# Altium schematic symbol library MainLibrary.SchLib: 169 symbols (part 1 of 2)
Pins are listed as number, name and electrical type; pins without a type are passive.

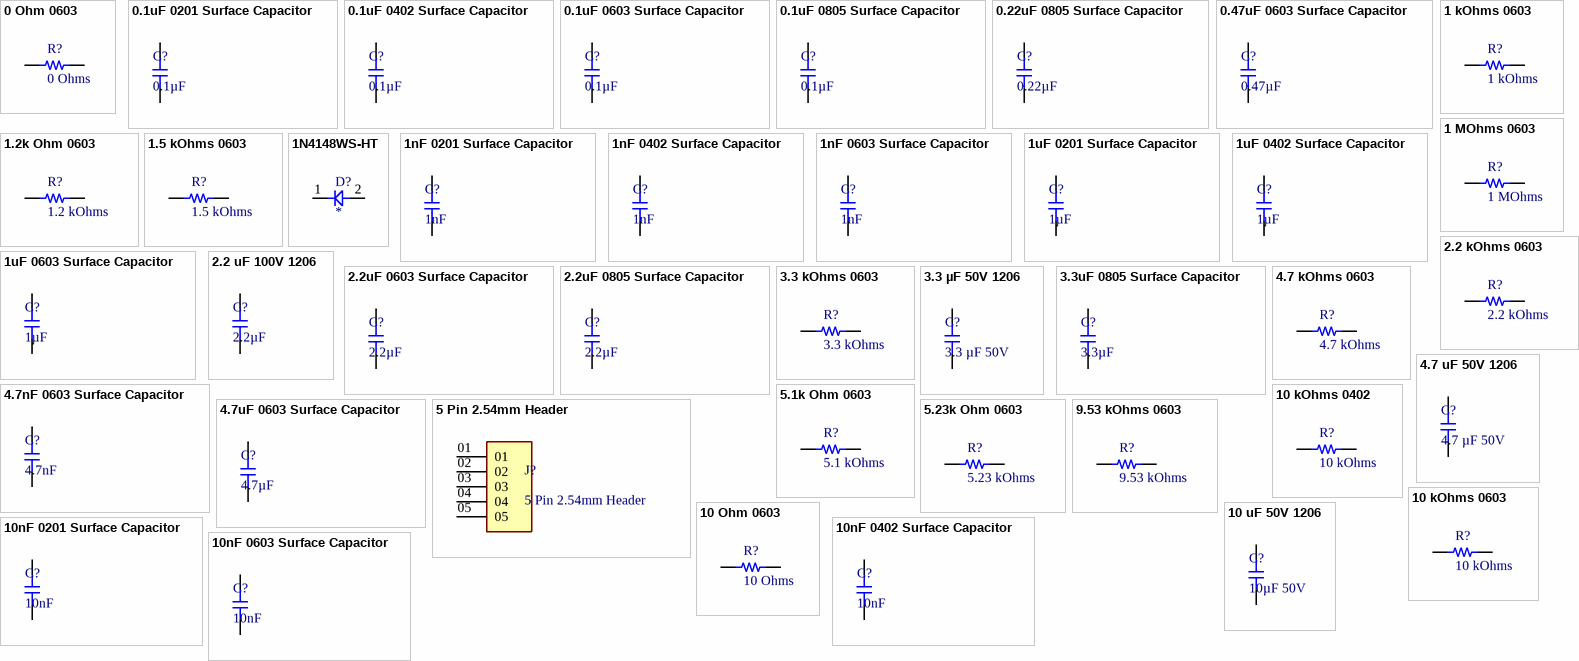
[diagram p0: symbols 0 Ohm 0603 to 10nF 0603 Surface Capacitor]

## 0 Ohm 0603
designator R?, comment 0 Ohms
0 Ohm 0603
footprint 0603_RES
pins: 1, 2

## 0.1uF 0201 Surface Capacitor
designator C?, comment 0.1µF
0.1uF 0201 Surface Capacitor
footprint 0201_CAP
pins: 1, 2

## 0.1uF 0402 Surface Capacitor
designator C?, comment 0.1µF
0.1uF 0402 Surface Capacitor
footprint 0402_CAP
pins: 1, 2

## 0.1uF 0603 Surface Capacitor
designator C?, comment 0.1µF
0.1uF 0603 Surface Capacitor
footprint 0603_Footprint
pins: 1, 2

## 0.1uF 0805 Surface Capacitor
designator C?, comment 0.1µF
0.1uF 0805 Surface Capacitor
footprint 0805
pins: 1, 2

## 0.22uF 0805 Surface Capacitor
designator C?, comment 0.22µF
0.22uF 0805 Surface Capacitor
footprint 0805
pins: 1, 2

## 0.47uF 0603 Surface Capacitor
designator C?, comment 0.47µF
0.47uF 0603 Surface Capacitor
footprint 0603_Footprint
pins: 1, 2

## 1 kOhms 0603
designator R?, comment 1 kOhms
1 kOhms 0603
footprint 0603_RES
pins: 1, 2

## 1 MOhms 0603
designator R?, comment 1 MOhms
1 MOhms 0603
footprint 0603_RES
pins: 1, 2

## 1.2k Ohm 0603
designator R?, comment 1.2 kOhms
1.2k Ohm 0603
footprint 0603_RES
pins: 1, 2

## 1.5 kOhms 0603
designator R?, comment 1.5 kOhms
1.5 kOhms 0603
footprint 0603_RES
pins: 1, 2

## 1N4148WS-HT
designator D?
75V 150mA Fast Switching Diode SMD; Manufacturer_Name: Vishay; Manufacturer_Part_Number: 1N4148WS-HT; Datasheet Link: https://www.vishay.com/docs/85751/1n4148ws.pdf; Height: 1.15mm; Mouser Part Number: 1N4148WS-HT; Mouser Price/Stock: https://www.mouser.co.uk/ProductDetail/Vishay-Semiconductors/1N4148WS-E3-18?qs=bTzheeSci6SMGZleBxLU%2Fg%3D%3D; Arrow Part Number: 1N4148WS-E3-18; Arrow Price/Stock: https://www.arrow.com/en/products/1n4148ws-e3-18/vishay?region=nac
footprint SOD2713X115N
pins: 1 K, 2 A

## 1nF 0201 Surface Capacitor
designator C?, comment 1nF
1nF 0201 Surface Capacitor
footprint 0201_CAP
pins: 1, 2

## 1nF 0402 Surface Capacitor
designator C?, comment 1nF
1nF 0402 Surface Capacitor
footprint 0402_CAP
pins: 1, 2

## 1nF 0603 Surface Capacitor
designator C?, comment 1nF
1nF 0603 Surface Capacitor
footprint 0603_Footprint
pins: 1, 2

## 1uF 0201 Surface Capacitor
designator C?, comment 1µF
1uF 0201 Surface Capacitor
footprint 0201_CAP
pins: 1, 2

## 1uF 0402 Surface Capacitor
designator C?, comment 1µF
1uF 0402 Surface Capacitor
footprint 0402_CAP
pins: 1, 2

## 1uF 0603 Surface Capacitor
designator C?, comment 1µF
1uF 0603 Surface Capacitor
footprint 0603_Footprint
pins: 1, 2

## 2.2 kOhms 0603
designator R?, comment 2.2 kOhms
2.2 kOhms 0603
footprint 0603_RES
pins: 1, 2

## 2.2 uF 100V 1206
designator C?, comment 2.2µF
2.2 uF 100V 1206
footprint 1206_10uF
pins: 1, 2

## 2.2uF 0603 Surface Capacitor
designator C?, comment 2.2µF
2.2uF 0603 Surface Capacitor
footprint 0603_Footprint
pins: 1, 2

## 2.2uF 0805 Surface Capacitor
designator C?, comment 2.2µF
2.2uF 0805 Surface Capacitor
footprint 0805
pins: 1, 2

## 3.3 kOhms 0603
designator R?, comment 3.3 kOhms
3.3 kOhms 0603
footprint 0603_RES
pins: 1, 2

## 3.3 µF 50V 1206
designator C?, comment 3.3 µF 50V
3.3 µF 50V 1206
footprint 1206_10uF
pins: 1, 2

## 3.3uF 0805 Surface Capacitor
designator C?, comment 3.3µF
3.3uF 0805 Surface Capacitor
footprint 0805
pins: 1, 2

## 4.7 kOhms 0603
designator R?, comment 4.7 kOhms
4.7 kOhms 0603
footprint 0603_RES
pins: 1, 2

## 4.7 uF 50V 1206
designator C?, comment 4.7 µF 50V
10 uF 50V 1206
footprint 1206_10uF
pins: 1, 2

## 4.7nF 0603 Surface Capacitor
designator C?, comment 4.7nF
4.7nF 0603 Surface Capacitor
footprint 0603_Footprint
pins: 1, 2

## 4.7uF 0603 Surface Capacitor
designator C?, comment 4.7µF
4.7uF 0603 Surface Capacitor
footprint 0603_Footprint
pins: 1, 2

## 5 Pin 2.54mm Header
designator J?
Generic 2.54MM 5 Pin Header; MP: MTSW-105-09-G-S-480; Availability: Unavailable; Package: None; Value: *; Price: None
footprint 5PIN_254MM
pins: 01, 02, 03, 04, 05

## 5.1k Ohm 0603
designator R?, comment 5.1 kOhms
5.1k Ohm 0603
footprint 0603_RES
pins: 1, 2

## 5.23k Ohm 0603
designator R?, comment 5.23 kOhms
5.23k Ohm 0603
footprint 0603_RES
pins: 1, 2

## 9.53 kOhms 0603
designator R?, comment 9.53 kOhms
9.53 kOhms 0603
footprint 0603_RES
pins: 1, 2

## 10 kOhms 0402
designator R?, comment 10 kOhms
10 kOhm 0402
footprint 0402_RES
pins: 1, 2

## 10 kOhms 0603
designator R?, comment 10 kOhms
10 kOhms 0603
footprint 0603_RES
pins: 1, 2

## 10 Ohm 0603
designator R?, comment 10 Ohms
10 Ohms 0603
footprint 0603_RES
pins: 1, 2

## 10 uF 50V 1206
designator C?, comment 10µF 50V
10 uF 50V 1206
footprint 1206_10uF
pins: 1, 2

## 10nF 0201 Surface Capacitor
designator C?, comment 10nF
10nF 0201 Surface Capacitor
footprint 0201_CAP
pins: 1, 2

## 10nF 0402 Surface Capacitor
designator C?, comment 10nF
10nF 0402 Surface Capacitor
footprint 0402_CAP
pins: 1, 2

## 10nF 0603 Surface Capacitor
designator C?, comment 10nF
10nF 0603 Surface Capacitor
footprint 0603_Footprint
pins: 1, 2

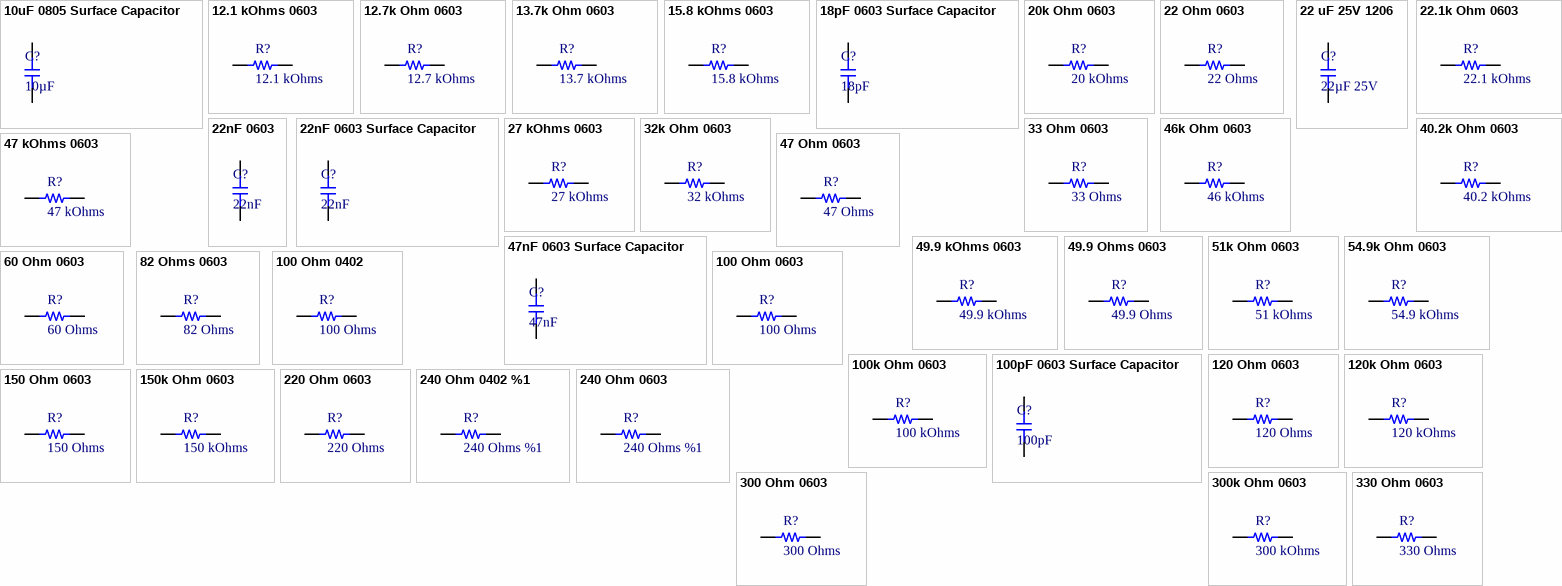
[diagram p1: symbols 10uF 0805 Surface Capacitor to 330 Ohm 0603]

## 10uF 0805 Surface Capacitor
designator C?, comment 10µF
10uF 0805 Surface Capacitor
footprint 0805
pins: 1, 2

## 12.1 kOhms 0603
designator R?, comment 12.1 kOhms
12.1 kOhms 0603
footprint 0603_RES
pins: 1, 2

## 12.7k Ohm 0603
designator R?, comment 12.7 kOhms
12.7k Ohm 0603
footprint 0603_RES
pins: 1, 2

## 13.7k Ohm 0603
designator R?, comment 13.7 kOhms
13.7 kOhms 0603
footprint 0603_RES
pins: 1, 2

## 15.8 kOhms 0603
designator R?, comment 15.8 kOhms
15.8 kOhms 0603
footprint 0603_RES
pins: 1, 2

## 18pF 0603 Surface Capacitor
designator C?, comment 18pF
18pF 0603 Surface Capacitor
footprint 0603_Footprint
pins: 1, 2

## 20k Ohm 0603
designator R?, comment 20 kOhms
20k Ohm 0603
footprint 0603_RES
pins: 1, 2

## 22 Ohm 0603
designator R?, comment 22 Ohms
22 Ohms 0603
footprint 0603_RES
pins: 1, 2

## 22 uF 25V 1206
designator C?, comment 22µF 25V
22 uF 25V 1206
footprint 1206_10uF
pins: 1, 2

## 22.1k Ohm 0603
designator R?, comment 22.1 kOhms
22.1 kOhms 0603
footprint 0603_RES
pins: 1, 2

## 22nF 0603
designator C?, comment 22nF
22nF 0603 Surface Capacitor
footprint 0603_Footprint
pins: 1, 2

## 22nF 0603 Surface Capacitor
designator C?, comment 22nF
22nF 0603 Surface Capacitor
footprint 0603_Footprint
pins: 1, 2

## 27 kOhms 0603
designator R?, comment 27 kOhms
27 kOhms 0603
footprint 0603_RES
pins: 1, 2

## 32k Ohm 0603
designator R?, comment 32 kOhms
32k Ohm 0603
footprint 0603_RES
pins: 1, 2

## 33 Ohm 0603
designator R?, comment 33 Ohms
33 Ohm 0603
footprint 0603_RES
pins: 1, 2

## 40.2k Ohm 0603
designator R?, comment 40.2 kOhms
40.2k Ohm 0603
footprint 0603_RES
pins: 1, 2

## 46k Ohm 0603
designator R?, comment 46 kOhms
46k Ohm 0603
footprint 0603_RES
pins: 1, 2

## 47 kOhms 0603
designator R?, comment 47 kOhms
47 kOhm 0603
footprint 0603_RES
pins: 1, 2

## 47 Ohm 0603
designator R?, comment 47 Ohms
47 Ohm 0603
footprint 0603_RES
pins: 1, 2

## 47nF 0603 Surface Capacitor
designator C?, comment 47nF
47nF 0603 Surface Capacitor
footprint 0603_Footprint
pins: 1, 2

## 49.9 kOhms 0603
designator R?, comment 49.9 kOhms
49.9 kOhms 0603
footprint 0603_RES
pins: 1, 2

## 49.9 Ohms 0603
designator R?, comment 49.9 Ohms
49.9 Ohms 0603
footprint 0603_RES
pins: 1, 2

## 51k Ohm 0603
designator R?, comment 51 kOhms
51k Ohm 0603
footprint 0603_RES
pins: 1, 2

## 54.9k Ohm 0603
designator R?, comment 54.9 kOhms
54.9k Ohm 0603
footprint 0603_RES
pins: 1, 2

## 60 Ohm 0603
designator R?, comment 60 Ohms
60 Ohm 0603
footprint 0603_RES
pins: 1, 2

## 82 Ohms 0603
designator R?, comment 82 Ohms
82 Ohms 0603
footprint 0603_RES
pins: 1, 2

## 100 Ohm 0402
designator R?, comment 100 Ohms
100 Ohm 0402
footprint 0402_RES
pins: 1, 2

## 100 Ohm 0603
designator R?, comment 100 Ohms
100 Ohm 0603
footprint 0603_RES
pins: 1, 2

## 100k Ohm 0603
designator R?, comment 100 kOhms
100k Ohm 0603
footprint 0603_RES
pins: 1, 2

## 100pF 0603 Surface Capacitor
designator C?, comment 100pF
100pF 0603 Surface Capacitor
footprint 0603_Footprint
pins: 1, 2

## 120 Ohm 0603
designator R?, comment 120 Ohms
120 Ohm 0603
footprint 0603_RES
pins: 1, 2

## 120k Ohm 0603
designator R?, comment 120 kOhms
120k Ohm 0603
footprint 0603_RES
pins: 1, 2

## 150 Ohm 0603
designator R?, comment 150 Ohms
150 Ohm 0603
footprint 0603_RES
pins: 1, 2

## 150k Ohm 0603
designator R?, comment 150 kOhms
150k Ohm 0603
footprint 0603_RES
pins: 1, 2

## 220 Ohm 0603
designator R?, comment 220 Ohms
220 Ohms 0603
footprint 0603_RES
pins: 1, 2

## 240 Ohm 0402 %1
designator R?, comment 240 Ohms %1
240 Ohm 0402 %1
footprint 0402_RES
pins: 1, 2

## 240 Ohm 0603
designator R?, comment 240 Ohms %1
footprint 0603_RES
pins: 1, 2

## 300 Ohm 0603
designator R?, comment 300 Ohms
300 Ohm 0603
footprint 0603_RES
pins: 1, 2

## 300k Ohm 0603
designator R?, comment 300 kOhms
300k Ohm 0603
footprint 0603_RES
pins: 1, 2

## 330 Ohm 0603
designator R?, comment 330 Ohms
330 Ohm 0603
footprint 0603_RES
pins: 1, 2

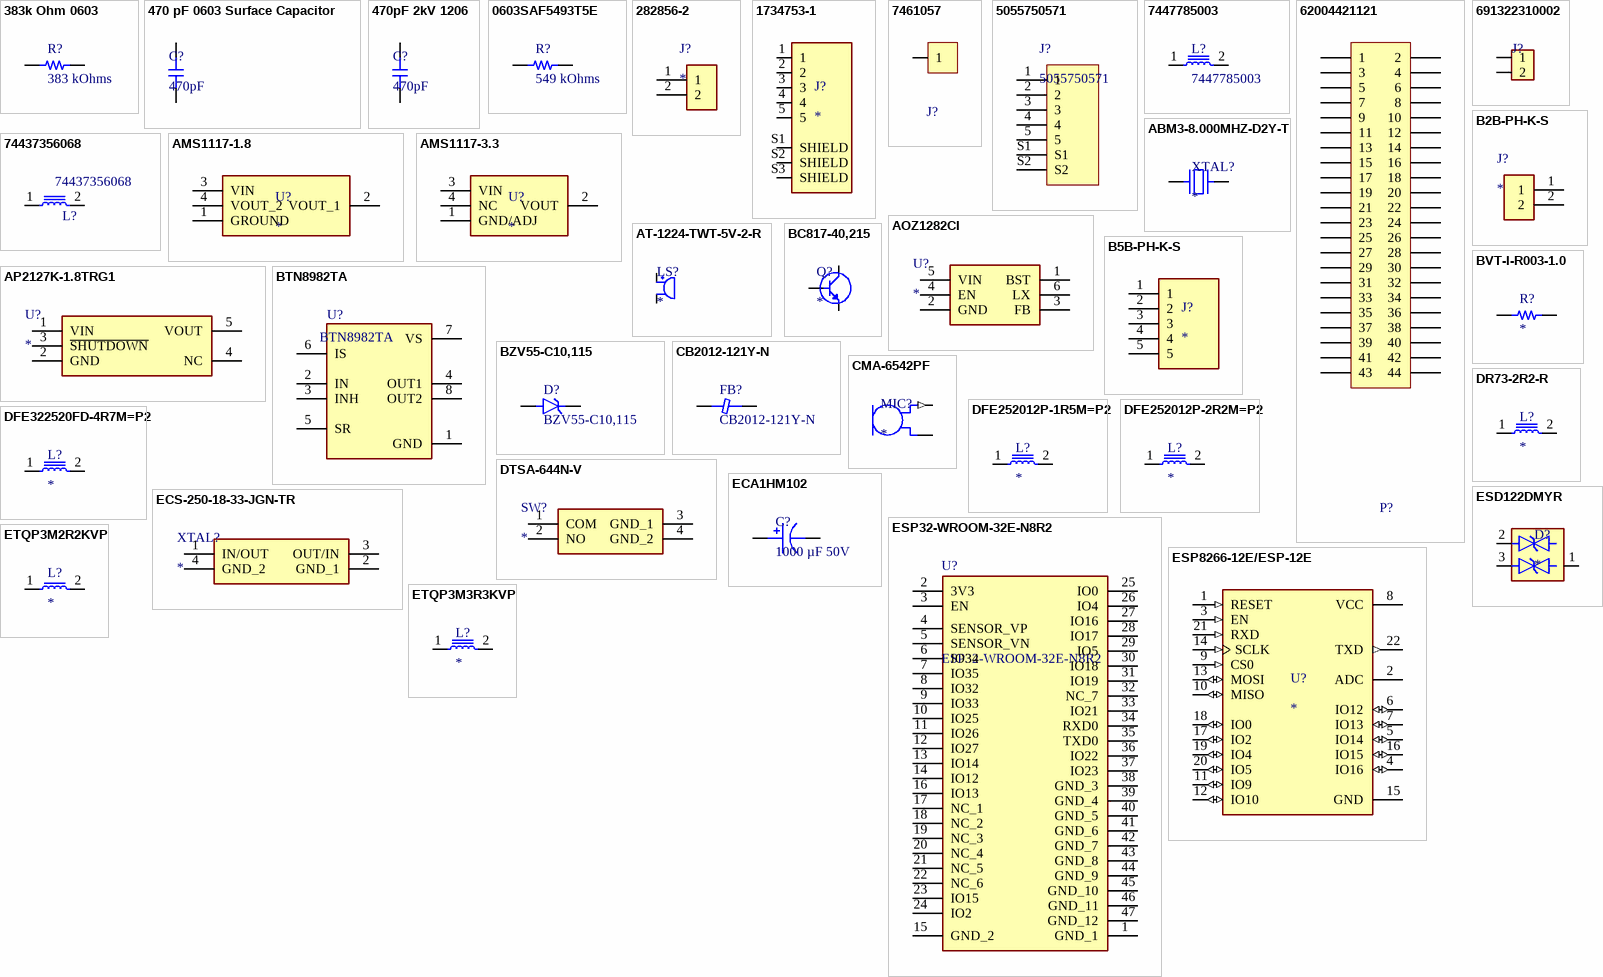
[diagram p2: symbols 383k Ohm 0603 to ETQP3M3R3KVP]

## 383k Ohm 0603
designator R?, comment 383 kOhms
383k Ohm 0603
footprint 0603_RES
pins: 1, 2

## 470 pF 0603 Surface Capacitor
designator C?, comment 470pF
470 pF 0603 Surface Capacitor
footprint 0603_Footprint
pins: 1, 2

## 470pF 2kV 1206
designator C?, comment 470pF
470pF 2kV 1206
footprint 1206_10uF
pins: 1, 2

## 0603SAF5493T5E
designator R?, comment 549 kOhms
0805 549 kOhms 5% 1/8W-S 100PPM
footprint 0603_RES
pins: 1, 2

## 282856-2
designator J?
TERMI-BLOK PCB MOUNT 2P; MP: 282856-2; MF: TE Connectivity; Purchase-URL: https://pricing.snapeda.com/search/part/282856-2/?ref=eda; Package: None; EU_RoHS_Compliance: Compliant with Exemptions; Price: None; Availability: In Stock; Value: *; Check_prices: https://www.snapeda.com/parts/282856-2/TE+Connectivity+AMP+Connectors/view-part/?ref=eda; SnapEDA_Link: https://www.snapeda.com/parts/282856-2/TE+Connectivity+AMP+Connectors/view-part/?ref=snap
footprint TE_282856-2
pins: 1, 2

## 1734753-1
designator J?
Conn Mini USB 2.0 Type B RCP 5 POS 0.8mm Solder ST Thru-Hole 5 Terminal 1 Port Box/Tray; MP: 1734753-1; Number_of_Positions: 5; Product_Type: Connector; MF: TE Connectivity; Centerline_Pitch: .8 mm[.031 in]; Check_prices: https://www.snapeda.com/parts/1734753-1/TE+Connectivity+AMP+Connectors/view-part/?ref=eda; Value: *; Availability: In Stock; Price: None; Package: None; SnapEDA_Link: https://www.snapeda.com/parts/1734753-1/TE+Connectivity+AMP+Connectors/view-part/?ref=snap; Purchase-URL: https://pricing.snapeda.com/search/part/1734753-1/?ref=eda; EU_RoHS_Compliance: Compliant
footprint CONN_1734753-1
pins: 1, 2, 3, 4, 5, S1 SHIELD, S2 SHIELD, S3 SHIELD

## 7461057
designator J?, comment M3 x 5mm  (value not drawn)
WP-BUTR REDCUBE PRESS-FIT with internal thread, two-rows, L7W7H6mm, M3 x 5mm, 100A; Manufacturer Part Number: 7461057; Manufacturer: Wurth Elektronik; Surface: Tin; ComponentLink1Description: Website Link; ComponentLink1URL: https://www.we-online.com/redexpert/article/7461057?ad; ComponentLink2Description: Datasheet Link; ComponentLink2URL: https://www.we-online.com/redexpert/spec/7461057?ad; Category: REDCUBE PRESS-FIT; Match Code: WP-BUTR; Mount: Press Fit; Operating Temperature Max: 150°C; Operating Temperature Min: -55°C; Packaging: Bulk; Length: 7mm; Width: 7mm; Height: 6mm; Material: Brass; Number of Pins: 6; Rated Current: 100A; Thread Length: 5mm; Thread Size: M3
footprint 7461057_HAL
footprint 7461057_HAL (WP-BUTR Bushes with two Rows Pin-Plate, M3, blind thr 6mm)
pins: 1

## 5055750571
designator J?
2.00mm Pitch, Micro-Lock Plus PCB Header, Single Row, Vertical, Surface Mount, Matte Tin Plating, Positive Lock, 5 Circuits, Black; Availability: Unavailable; MP: 5055750571; Value: *; Price: None; Package: None
footprint MOLEX_5055750571
pins: 1, 2, 3, 4, 5, S1, S2

## 7447785003
designator L?
7447785003 2.8A Inductor; Manufacturer_Name: Vishay; Manufacturer_Part_Number: IHLP2525CZER220M8A; Datasheet Link: https://componentsearchengine.com/Datasheets/2/IHLP2525CZER220M8A.pdf; Height: 3mm; Mouser Part Number: 70-IHLP2525CZR220M8A; Mouser Price/Stock: https://www.mouser.co.uk/ProductDetail/Vishay-Dale/IHLP2525CZER220M8A?qs=ei%2FvZTf36ZyKyW60gc1ORQ%3D%3D; Arrow Part Number: IHLP2525CZER220M8A; Arrow Price/Stock: https://www.arrow.com/en/products/ihlp2525czer220m8a/vishay
footprint 7447785003
pins: 1, 2

## 62004421121
designator P?  (value not drawn)
WR-PHD Pin Header, THT, Vertical, pitch 2mm, 2 Row, 44P; Manufacturer: Wurth Elektronik; Contact Resistance: 20mOhm; Rated Current: 2A; Working Voltage: 200V; Withstanding Voltage: 500V; Manufacturer Part Number: 62004421121; Category: Board-to-Board Connectors; Match Code: WR-PHD; ComponentLink1Description: Website Link; ComponentLink1URL: https://www.we-online.com/redexpert/article/62004421121?ad; ComponentLink2Description: Datasheet Link; ComponentLink2URL: https://www.we-online.com/redexpert/spec/62004421121?ad; Mount: Through Hole; Operating Temperature Max: 105°C; Operating Temperature Min: -40°C; Packaging: Bag; Gender: Pin Header; Number of Pins: 44; Number of Rows: 2; Orientation: Vertical; Pitch: 2mm
footprint 62004421121 (2.00 mm THT Dual Pin Header, 44p)
pins: 1, 2, 3, 4, 5, 6, 7, 8, 9, 10, 11, 12, 13, 14, 15, 16, 17, 18, 19, 20, 21, 22, 23, 24, 25, 26, 27, 28, 29, 30, 31, 32, 33, 34, 35, 36, 37, 38, 39, 40, 41, 42, 43, 44

## 74437356068
designator L?
WE-LHMI SMT Power Inductor, size 8030, 6.8uH, 5.8A, 49.3mOhm; Manufacturer: Wurth Elektronik; Case/Size Code: 8030; DC Resistance: 35.5mOhm; Saturation Current @ 10%: 6.9A; Saturation Current @ 30%: 14.2A; Self Resonant Frequency: 14MHz; Manufacturer Part Number: 74437356068; Category: Power Inductors; Match Code: WE-LHMI; ComponentLink1Description: Website Link; ComponentLink1URL: https://www.we-online.com/redexpert/article/74437356068?ad; ComponentLink2Description: Datasheet Link; ComponentLink2URL: https://www.we-online.com/redexpert/spec/74437356068?ad; Mount: Surface Mount; Operating Temperature Max: 125°C; Operating Temperature Min: -40°C; Packaging: Tape and Reel; Length: 9.2mm; Width: 8.5mm; Height: 3mm; DC Resistance Max: 49.3mOhm; Inductance: 6.8uH; Performance Rated Current: 5.8A
footprint WE-LHMI_8030
pins: 1, 2

## 691322310002
designator J?  (value not drawn)
WURTH 3.81MM Terminal Block 691322310002
footprint WURH_3_81_691322310002
pins: 1, 2

## ABM3-8.000MHZ-D2Y-T
designator XTAL?
8MHz 2 Pin SMD Crystal; Manufacturer_Name: ABRACON; Manufacturer_Part_Number: ABM3-8.000MHZ-D2Y-T; Datasheet Link: https://abracon.com/Resonators/abm3.pdf; Height: 1.3mm; Mouser Part Number: 815-ABM3-8-D2Y-T; Mouser Price/Stock: https://www.mouser.co.uk/ProductDetail/ABRACON/ABM3-8.000MHZ-D2Y-T?qs=ihRgKfnEsN4giUXjc3yS1g%3D%3D; Arrow Part Number: ABM3-8.000MHZ-D2Y-T; Arrow Price/Stock: https://www.arrow.com/en/products/abm3-8.000mhz-d2y-t/abracon?region=europe
footprint ABM3
pins: 1, 2

## AMS1117-1.8
designator U?
1.8V LDO; Manufacturer_Name: Advanced Monolithic Systems; Manufacturer_Part_Number: AMS1117-1.8; Datasheet Link: https://datasheet.datasheetarchive.com/originals/distributors/Datasheets-1/DSA-6085.pdf; Height: 1.8mm
footprint SOT229P700X180-4N
pins: 1 GROUND, 2 VOUT_1, 3 VIN, 4 VOUT_2

## AMS1117-3.3
designator U?
3.3V LDO; Manufacturer_Name: Advanced; Manufacturer_Part_Number: AMS1117-3.3; Datasheet Link: https://datasheet.datasheetarchive.com/originals/distributors/Datasheets-28/DSA-550594.pdf; Height: 1.8mm
footprint SOT229P700X180-4N
pins: 1 GND/ADJ, 2 VOUT, 3 VIN, 4 NC

## AOZ1282CI
designator U?
+36V 1.2A Buck Converter; Manufacturer_Name: Alpha & Omega Semiconductors; Manufacturer_Part_Number: AOZ1282CI; Datasheet Link: http://www.aosmd.com/res/data_sheets/AOZ1282CI.pdf; Height: 1.25mm; Arrow Part Number: AOZ1282CI; Arrow Price/Stock: https://www.arrow.com/en/products/aoz1282ci/alpha-and-omega-semiconductor?region=nac
footprint SOT95P280X125-6N
pins: 1 BST, 2 GND, 3 FB, 4 EN, 5 VIN, 6 LX

## AP2127K-1.8TRG1
designator U?
1.8V Fixed LDO; Manufacturer_Name: Diodes Incorporated; Manufacturer_Part_Number: AP2127K-1.8TRG1; Datasheet Link: https://www.diodes.com//assets/Datasheets/AP2127.pdf; Height: 1.45mm; Mouser Part Number: 621-AP2127K-1.8TRG1; Mouser Price/Stock: https://www.mouser.co.uk/ProductDetail/Diodes-Incorporated/AP2127K-1.8TRG1?qs=x6A8l6qLYDDmU4WXw4%252BBlA%3D%3D; Arrow Part Number: AP2127K-1.8TRG1; Arrow Price/Stock: https://www.arrow.com/en/products/ap2127k-1.8trg1/diodes-incorporated?region=nac
footprint SOT95P282X145-5N
pins: 1 VIN, 2 GND, 3 ~{SHUTDOWN}, 4 NC, 5 VOUT

## AT-1224-TWT-5V-2-R
designator LS?
AUDIO TRANSDUCER 12 VP-P 85 DB 2400 HZ; MP: AT-1224-TWT-5V-2-R; Package: None; Price: None; Value: *; Availability: Unavailable
footprint XDCR_AT-1224-TWT-5V-2-R
pins: N, P

## B2B-PH-K-S
designator J?
Connector Header Through Hole 2 position 0.079 (2.00mm); MF: JST Sales America Inc.; MP: B2B-PH-K-S; SnapEDA_Link: https://www.snapeda.com/parts/B2B-PH-K-S/JST/view-part/?ref=snap; Package: None; Value: *; Check_prices: https://www.snapeda.com/parts/B2B-PH-K-S/JST/view-part/?ref=eda
footprint JST_B2B-PH-K-S
pins: 1, 2

## B5B-PH-K-S
designator J?
THT 2MM Connector; MF: {'manufacturer': u'JST Sales America Inc.'}; MP: B5B-PH-K-S; Package: None; Price: None; Value: *; Availability: Unavailable
footprint JST_B5B-PH-K-S
pins: 1, 2, 3, 4, 5

## BC817-40,215
designator Q?
0.5A 45V BJT NPN Transistor SOT23 SMD; Manufacturer_Name: Nexperia; Manufacturer_Part_Number: BC817-40,215; Datasheet Link: https://assets.nexperia.com/documents/data-sheet/BC817_SER.pdf; Height: 1.1mm; Mouser Part Number: 771-BC817-40-T/R; Mouser Price/Stock: https://www.mouser.co.uk/ProductDetail/Nexperia/BC817-40215?qs=me8TqzrmIYU%252B245p8hOLaQ%3D%3D; Arrow Part Number: BC817-40,215; Arrow Price/Stock: https://www.arrow.com/en/products/bc817-40215/nexperia?region=nac
footprint BC81740215
pins: 1 B, 2 E, 3 C

## BTN8982TA
designator U?
High Current PN Half Bridge NovalithIC; Manufacturer: Infineon Technologies; ManufacturerPartNumber: BTN8982TA; PackageReference: PG-TO263-7-1
footprint TO127P1500X440-8N-1 (TO,1.27mm pitch;7 pin,15.00mm L X 9.25mm W X 4.40mm H body)
pins: 1 GND (power) "Ground", 2 IN "Input", 3 INH "Inhibit", 4 OUT1 "Power Output of the Bridge", 5 SR "Slew Rate", 6 IS "Current Sense and Diagnostics", 7 VS (power) "Supply", 8 OUT2 "Power Output of the Bridge"

## BVT-I-R003-1.0
designator R?
3mOhm Resistor 2510 SMD Package; Manufacturer_Name: Isabellenhutte; Manufacturer_Part_Number: BVT-I-R003-1.0; Datasheet Link: https://www.isabellenhuetteusa.com/wp-content/uploads/2020/05/BVT.pdf; Height: 0.38mm
footprint BVTIR00310
pins: 1, 2

## BZV55-C10,115
designator D?
500mW 10V Zener Diode; MP: BZV55C47_L1; Value: *; Availability: Unavailable; Package: None; Price: None
footprint DIOMELF3515N
pins: A, C K

## CB2012-121Y-N
designator FB?
Ferrite Bead 300mA 0805 SMD
footprint Inductor-0805
pins: 1, 2

## CMA-6542PF
designator MIC?
9.7 mm, Omnidirectional, PCB Mount, 4.5 Vdc, Electret Condenser Microphone; MP: CMA-6542PF; MF: CUI Devices; Check_prices: https://www.snapeda.com/parts/CMA-6542PF/CUI+Devices/view-part/?ref=eda; Price: None; Availability: In Stock; Package: None; SnapEDA_Link: https://www.snapeda.com/parts/CMA-6542PF/CUI+Devices/view-part/?ref=snap; Value: *; Purchase-URL: https://pricing.snapeda.com/search/part/CMA-6542PF/?ref=eda; CUI_purchase_URL: https://www.cuidevices.com/product/audio/microphones/electret-condenser-microphones/cma-6542pf?utm_source=snapeda.com&utm_medium=referral&utm_campaign=snapedaBOM
footprint CUI_CMA-6542PF
pins: GND (power), OUT (out)

## DFE252012P-1R5M=P2
designator L?
Fixed Inductor 1.5uH 3.5A R060 SMD; MP: DFE252012P-1R5M=P2; Package: None; Price: None; Value: *; Availability: Unavailable
footprint INDC2520X120N
pins: 1, 2

## DFE252012P-2R2M=P2
designator L?
Inductor with Inductance: 2.2uH Tol. +/-20%, Package: 1008 (2520); MF: Murata Electronics; MP: DFE252012P-2R2M=P2; Price: None; SnapEDA_Link: https://www.snapeda.com/parts/DFE252012P-2R2M=P2/Murata%20Electronics%20North%20America/view-part/1499531/?ref=snap; Check_prices: https://www.snapeda.com/parts/DFE252012P-2R2M=P2/Murata%20Electronics%20North%20America/view-part/1499531/?ref=eda; Value: *; Package: 2520 Murata; Purchase-URL: https://pricing.snapeda.com/search/part/DFE252012P-2R2M=P2/?ref=eda; Availability: Good
footprint INDC2520X120N
pins: 1, 2

## DFE322520FD-4R7M=P2
designator L?
Inductor with Inductance: 4.7uH Tol. +/-20%, Package: 1210 (3225); MP: DFE322520FD-4R7M=P2; MF: Murata Electronics; Package: 3225 Murata; Purchase-URL: https://pricing.snapeda.com/search/part/DFE322520FD-4R7M=P2/?ref=eda; Check_prices: https://www.snapeda.com/parts/DFE322520FD-4R7M=P2/Murata/view-part/?ref=eda; Value: *; Digi-Key_Part_Number: 490-18407-2-ND; SnapEDA_Link: https://www.snapeda.com/parts/DFE322520FD-4R7M=P2/Murata/view-part/?ref=snap
footprint INDC3225X200N
pins: 1, 2

## DR73-2R2-R
designator L?
2.2 µH Shielded Drum Core, Wirewound Inductor 4.15 A 16.5mOhm Nonstandard; MF: Eaton; MP: DR73-2R2-R; SnapEDA_Link: https://www.snapeda.com/parts/DR73-2R2-R/Eaton/view-part/?ref=snap; Price: None; Availability: In Stock; Value: *; Check_prices: https://www.snapeda.com/parts/DR73-2R2-R/Eaton/view-part/?ref=eda; Purchase-URL: https://pricing.snapeda.com/search/part/DR73-2R2-R/?ref=eda; Package: NON-STANDARD Eaton
footprint INDM7676X355N
pins: 1, 2

## DTSA-644N-V
designator SW?
Button DIP; Manufacturer_Name: Diptronics; Manufacturer_Part_Number: DTSA-644N-V; Datasheet Link: https://ru.mouser.com/ProductDetail/Diptronics/DTSA-644N-V?qs=gTYE2QTfZfTLDusQpQJufA%3D%3D; Height: 8mm; Mouser Part Number: 113-DTSA-644N-V; Mouser Price/Stock: https://www.mouser.co.uk/ProductDetail/Diptronics/DTSA-644N-V?qs=gTYE2QTfZfTLDusQpQJufA%3D%3D
footprint DTSA644NV
pins: 1 COM, 2 NO, 3 GND_1, 4 GND_2

## ECA1HM102
designator C?, comment 1000 µF 50V
1000µF 50V Aluminum Electrolytic Capacitors Radial, Can 2000 Hrs @ 85Â°C
footprint CAPPRD500W60D1250H2500
pins: N, P

## ECS-250-18-33-JGN-TR
designator XTAL?
25 MHz 4 Pin Crystal OSC SMD; Manufacturer_Name: ECS; Manufacturer_Part_Number: ECS-250-18-33-JGN-TR; Datasheet Link: https://componentsearchengine.com/Datasheets/1/ECS-250-18-33-JGN-TR.pdf; Height: 0.8mm; Mouser Part Number: 520-250-18-33-JGNT; Mouser Price/Stock: https://www.mouser.co.uk/ProductDetail/ECS/ECS-250-18-33-JGN-TR?qs=AQlKX63v8RsjuKdEYMjMow%3D%3D; Arrow Part Number: ECS-250-18-33-JGN-TR; Arrow Price/Stock: https://www.arrow.com/en/products/ecs-250-18-33-jgn-tr/ecs-international?region=nac
footprint ECS2501833JGNTR
pins: 1 IN/OUT, 2 GND_1, 3 OUT/IN, 4 GND_2

## ESD122DMYR
designator D?
Dual 0.2-pF, Â±3.6-V, Â±18-kV ESD protection diode for USB Type-C and HDMI 2.0; MF: Texas Instruments; MP: ESD122DMYR; SnapEDA_Link: https://www.snapeda.com/parts/ESD122DMYR/Texas+Instruments/view-part/?ref=snap; Package: X2SON-3 Texas Instruments; Value: *; Check_prices: https://www.snapeda.com/parts/ESD122DMYR/Texas+Instruments/view-part/?ref=eda
footprint DIO_ESD122DMYR
pins: 1 GND (power), 2 IO1, 3 IO2

## ESP32-WROOM-32E-N8R2
designator U?
Multiprotocol Modules ESP32-WROOM-32E integrates ESP32-D0WD-V3, with higher stability and safety performance.; Manufacturer_Name: Espressif Systems; Geometry.Height: 3.25mm; Manufacturer_Part_Number: ESP32-WROOM-32E-N8R2; Mouser Part Number: 356-ESP32WRM32EN8R2; Mouser Price/Stock: https://www.mouser.co.uk/ProductDetail/Espressif-Systems/ESP32-WROOM-32E-N8R2?qs=By6Nw2ByBD0mvGJSS3Ohlw%3D%3D; Arrow Part Number: *; Arrow Price/Stock: *; Datasheet Link: https://www.espressif.com/sites/default/files/documentation/esp32-wroom-32e_esp32-wroom-32ue_datasheet_en.pdf
footprint ESP32WROOM32EN8R2
footprint ESP32WROOM32EN8R2
pins: 1 GND_1, 2 3V3, 3 EN, 4 SENSOR_VP, 5 SENSOR_VN, 6 IO34, 7 IO35, 8 IO32, 9 IO33, 10 IO25, 11 IO26, 12 IO27, 13 IO14, 14 IO12, 15 GND_2, 16 IO13, 17 NC_1, 18 NC_2, 19 NC_3, 20 NC_4, 21 NC_5, 22 NC_6, 23 IO15, 24 IO2, 25 IO0, 26 IO4, 27 IO16, 28 IO17, 29 IO5, 30 IO18, 31 IO19, 32 NC_7, 33 IO21, 34 RXD0, 35 TXD0, 36 IO22, 37 IO23, 38 GND_3, 39 GND_4, 40 GND_5, 41 GND_6, 42 GND_7, 43 GND_8, 44 GND_9, 45 GND_10, 46 GND_11, 47 GND_12

## ESP8266-12E/ESP-12E
designator U?
Integrated ESP8266 Ex + 4MB Flash 32 Bit 80-160MHz Wifi Microcontroller.; MF: AI-Thinker; MP: ESP8266-12E/ESP-12E; Value: *; SnapEDA_Link: https://www.snapeda.com/parts/ESP8266-12E/ESP-12E/AI-Thinker/view-part/?ref=snap; Availability: Not in stock; Price: None; Package: None; Check_prices: https://www.snapeda.com/parts/ESP8266-12E/ESP-12E/AI-Thinker/view-part/?ref=eda
footprint XCVR_ESP8266-12E/ESP-12E
pins: 1 RESET (in), 2 ADC, 3 EN (in), 4 IO16 (io), 5 IO14 (io), 6 IO12 (io), 7 IO13 (io), 8 VCC (power), 9 CS0 (in), 10 MISO (io), 11 IO9 (io), 12 IO10 (io), 13 MOSI (io), 14 SCLK (in), 15 GND (power), 16 IO15 (io), 17 IO2 (io), 18 IO0 (io), 19 IO4 (io), 20 IO5 (io), 21 RXD (in), 22 TXD (out)

## ETQP3M2R2KVP
designator L?
Power Choke Shielded Wirewound 2.2uH 20% 100KHz Metal 6.3A 0.022Ohm DCR Automotive T/R; MP: ETQ-P3M2R2KVP; MF: Panasonic Electronic; SnapEDA_Link: https://www.snapeda.com/parts/ETQ-P3M2R2KVP/Panasonic+Electronic+Components/view-part/?ref=snap; Purchase-URL: https://pricing.snapeda.com/search/part/ETQ-P3M2R2KVP/?ref=eda; Availability: In Stock; Package: SMD-2 Panasonic; Price: None; Value: *; Check_prices: https://www.snapeda.com/parts/ETQ-P3M2R2KVP/Panasonic+Electronic+Components/view-part/?ref=eda
footprint IND_ETQP3M3R3KVP
pins: 1, 2

## ETQP3M3R3KVP
designator L?
3.3H Shielded Inductor 5.4A 30.03mOhm Max 2-SMD, J-Lead; MF: Panasonic; MP: ETQP3M3R3KVP; Price: None; SnapEDA_Link: https://www.snapeda.com/parts/ETQP3M3R3KVP/Panasonic/view-part/5787884/?ref=snap; Availability: In Stock; Value: *; Check_prices: https://www.snapeda.com/parts/ETQP3M3R3KVP/Panasonic/view-part/5787884/?ref=eda; Package: SMD-2 Panasonic
footprint IND_ETQP3M3R3KVP
pins: 1, 2

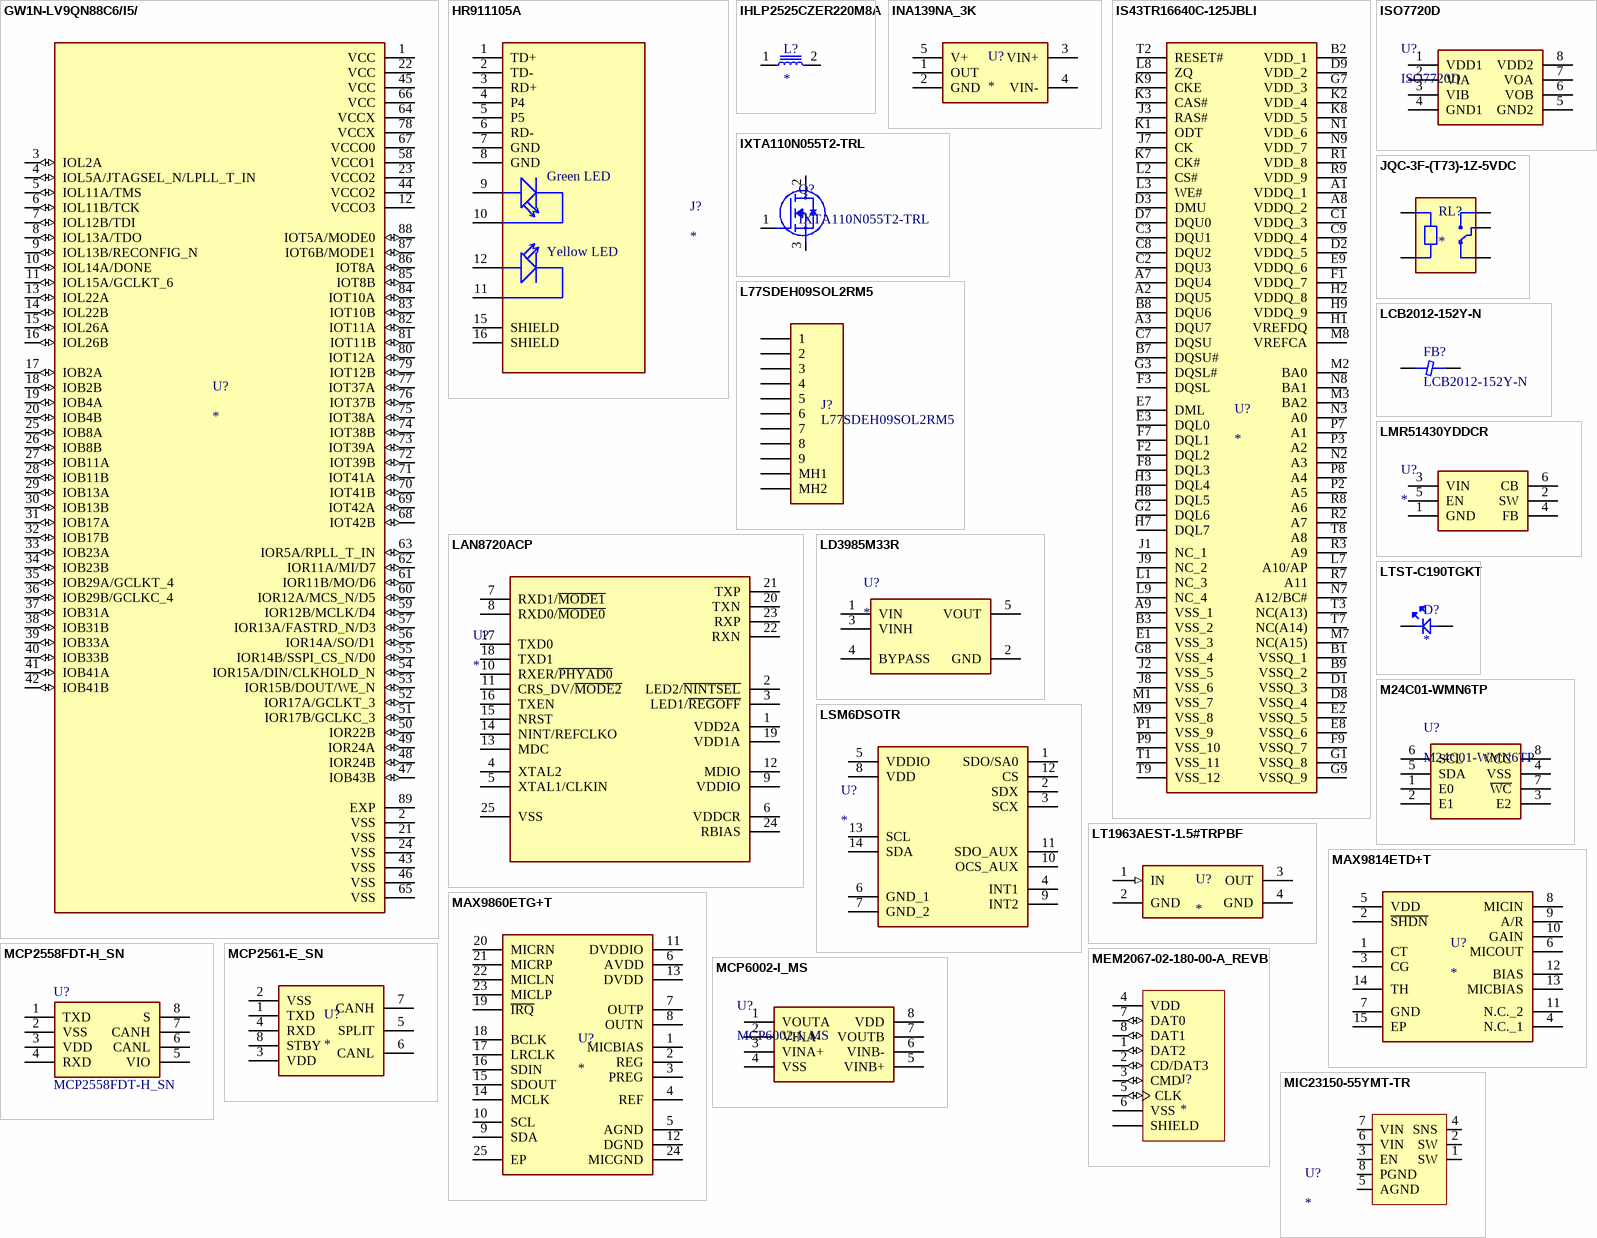
[diagram p3: symbols GW1N-LV9QN88C6/I5/ to MIC23150-55YMT-TR]

## GW1N-LV9QN88C6/I5/
designator U?
Volatile SRAM based and non-volatile flash-based field-programmable gate array (FPGA) technology; MP: GW1N-LV9QN88C6/I5/; MF: Gowin Semiconductor; Value: *; Package: Package; Check_prices: https://www.snapeda.com/parts/GW1N-LV9QN88C6/I5//Gowin%20Semiconductor/view-part/6058179/?ref=eda; Price: None; SnapEDA_Link: https://www.snapeda.com/parts/GW1N-LV9QN88C6/I5//Gowin%20Semiconductor/view-part/6058179/?ref=snap; Availability: No availability data
footprint QFN40P1000X1000X95-89N
pins: 1 VCC (power), 2 VSS (power), 3 IOL2A (io), 4 IOL5A/JTAGSEL_N/LPLL_T_IN (io), 5 IOL11A/TMS (io), 6 IOL11B/TCK (io), 7 IOL12B/TDI (io), 8 IOL13A/TDO (io), 9 IOL13B/RECONFIG_N (io), 10 IOL14A/DONE (io), 11 IOL15A/GCLKT_6 (io), 12 VCCO3 (power), 13 IOL22A (io), 14 IOL22B (io), 15 IOL26A (io), 16 IOL26B (io), 17 IOB2A (io), 18 IOB2B (io), 19 IOB4A (io), 20 IOB4B (io), 21 VSS (power), 22 VCC (power), 23 VCCO2 (power), 24 VSS (power), 25 IOB8A (io), 26 IOB8B (io), 27 IOB11A (io), 28 IOB11B (io), 29 IOB13A (io), 30 IOB13B (io), 31 IOB17A (io), 32 IOB17B (io), 33 IOB23A (io), 34 IOB23B (io), 35 IOB29A/GCLKT_4 (io), 36 IOB29B/GCLKC_4 (io), 37 IOB31A (io), 38 IOB31B (io), 39 IOB33A (io), 40 IOB33B (io), 41 IOB41A (io), 42 IOB41B (io), 43 VSS (power), 44 VCCO2 (power), 45 VCC (power), 46 VSS (power), 47 IOB43B (io), 48 IOR24B (io), 49 IOR24A (io), 50 IOR22B (io), 51 IOR17B/GCLKC_3 (io), 52 IOR17A/GCLKT_3 (io), 53 IOR15B/DOUT/WE_N (io), 54 IOR15A/DIN/CLKHOLD_N (io), 55 IOR14B/SSPI_CS_N/D0 (io), 56 IOR14A/SO/D1 (io), 57 IOR13A/FASTRD_N/D3 (io), 58 VCCO1 (power), 59 IOR12B/MCLK/D4 (io), 60 IOR12A/MCS_N/D5 (io), 61 IOR11B/MO/D6 (io), 62 IOR11A/MI/D7 (io), 63 IOR5A/RPLL_T_IN (io), 64 VCCX (power), 65 VSS (power), 66 VCC (power), 67 VCCO0 (power), 68 IOT42B (io), 69 IOT42A (io), 70 IOT41B (io), 71 IOT41A (io), 72 IOT39B (io), 73 IOT39A (io), 74 IOT38B (io), 75 IOT38A (io), 76 IOT37B (io), 77 IOT37A (io), 78 VCCX (power), 79 IOT12B (io), 80 IOT12A (io), 81 IOT11B (io), 82 IOT11A (io), 83 IOT10B (io), 84 IOT10A (io), 85 IOT8B (io), 86 IOT8A (io), 87 IOT6B/MODE1 (io), 88 IOT5A/MODE0 (io), 89 EXP (power)

## HR911105A
designator J?
RJ45 Isolated Connector + LED DIP Package; MP: HR911105A; MF: hanrun; SnapEDA_Link: https://www.snapeda.com/parts/HR911105A/HanRun/view-part/?ref=snap; Package: None; Check_prices: https://www.snapeda.com/parts/HR911105A/HanRun/view-part/?ref=eda; Price: None; Value: *; Availability: Not in stock
footprint HANRUN_HR911105A
pins: 1 TD+, 2 TD-, 3 RD+, 4 P4, 5 P5, 6 RD-, 7 GND (power), 8 GND (power), 9 GA, 10 GC, 11 YC, 12 YA, 15 SHIELD, 16 SHIELD
text: Green LED; Yellow LED

## IHLP2525CZER220M8A
designator L?
Fixed Inductor 22uH 2.8A 174 mOHM SMD; Manufacturer_Name: Vishay; Manufacturer_Part_Number: IHLP2525CZER220M8A; Datasheet Link: https://componentsearchengine.com/Datasheets/2/IHLP2525CZER220M8A.pdf; Height: 3mm; Mouser Part Number: 70-IHLP2525CZR220M8A; Mouser Price/Stock: https://www.mouser.co.uk/ProductDetail/Vishay-Dale/IHLP2525CZER220M8A?qs=ei%2FvZTf36ZyKyW60gc1ORQ%3D%3D; Arrow Part Number: IHLP2525CZER220M8A; Arrow Price/Stock: https://www.arrow.com/en/products/ihlp2525czer220m8a/vishay
footprint INDPM6965X300N
pins: 1, 2

## INA139NA_3K
designator U?
%0.5 Current Monitor 60V Analog SMD; Manufacturer_Name: Texas Instruments; Manufacturer_Part_Number: INA139NA/3K; Datasheet Link: http://www.ti.com/lit/gpn/ina139; Height: 1.45mm; Mouser Part Number: 595-INA139NA/3K; Mouser Price/Stock: https://www.mouser.co.uk/ProductDetail/Texas-Instruments/INA139NA-3K?qs=VBduBm9rCJS5yg1Xiaw5Dw%3D%3D; Arrow Part Number: INA139NA/3K; Arrow Price/Stock: https://www.arrow.com/en/products/ina139na3k/texas-instruments?region=nac
footprint SOT95P280X145-5N
pins: 1 OUT, 2 GND, 3 VIN+, 4 VIN-, 5 V+

## IS43TR16640C-125JBLI
designator U?
DDR3 1GB Size RAM 1.5V; Manufacturer_Name: Integrated Silicon Solution Inc.; Manufacturer_Part_Number: IS43TR16640C-125JBLI; Datasheet Link: https://www.mouser.in/datasheet/2/198/43_46TR16640C_81280CL-1663660.pdf; Height: 1.2mm; Mouser Part Number: 870-16640C-125JBLI; Mouser Price/Stock: https://www.mouser.co.uk/ProductDetail/ISSI/IS43TR16640C-125JBLI?qs=BJlw7L4Cy786chbx1%252BXV%252Bg%3D%3D; Arrow Part Number: IS43TR16640C-125JBLI; Arrow Price/Stock: https://www.arrow.com/en/products/is43tr16640c-125jbli/integrated-silicon-solution-inc?region=nac
footprint BGA96C80P9X16_900X1300X120
pins: A1 VDDQ_1, A2 DQU5, A3 DQU7, A7 DQU4, A8 VDDQ_2, A9 VSS_1, B1 VSSQ_1, B2 VDD_1, B3 VSS_2, B7 DQSU#, B8 DQU6, B9 VSSQ_2, C1 VDDQ_3, C2 DQU3, C3 DQU1, C7 DQSU, C8 DQU2, C9 VDDQ_4, D1 VSSQ_3, D2 VDDQ_5, D3 DMU, D7 DQU0, D8 VSSQ_4, D9 VDD_2, E1 VSS_3, E2 VSSQ_5, E3 DQL0, E7 DML, E8 VSSQ_6, E9 VDDQ_6, F1 VDDQ_7, F2 DQL2, F3 DQSL, F7 DQL1, F8 DQL3, F9 VSSQ_7, G1 VSSQ_8, G2 DQL6, G3 DQSL#, G7 VDD_3, G8 VSS_4, G9 VSSQ_9, H1 VREFDQ, H2 VDDQ_8, H3 DQL4, H7 DQL7, H8 DQL5, H9 VDDQ_9, J1 NC_1, J2 VSS_5, J3 RAS#, J7 CK, J8 VSS_6, J9 NC_2, K1 ODT, K2 VDD_4, K3 CAS#, K7 CK#, K8 VDD_5, K9 CKE, L1 NC_3, L2 CS#, L3 WE#, L7 A10/AP, L8 ZQ, L9 NC_4, M1 VSS_7, M2 BA0, M3 BA2, M7 NC(A15), M8 VREFCA, M9 VSS_8, N1 VDD_6, N2 A3, N3 A0, N7 A12/BC#, N8 BA1, N9 VDD_7, P1 VSS_9, P2 A5, P3 A2, P7 A1, P8 A4, P9 VSS_10, R1 VDD_8, R2 A7, R3 A9, R7 A11, R8 A6, R9 VDD_9, T1 VSS_11, T2 RESET#, T3 NC(A13), T7 NC(A14), T8 A8, T9 VSS_12

## ISO7720D
designator U?
Digtial +3.3V - +5V Isolator; Manufacturer_Name: Analog Devices; Manufacturer_Part_Number: ADUM1200ARZ; Datasheet Link: http://uk.rs-online.com/web/p/products/4966825; Height: 1.75mm; Mouser Part Number: 584-ADUM1200ARZ; Mouser Price/Stock: https://www.mouser.co.uk/ProductDetail/Analog-Devices/ADUM1200ARZ?qs=WIvQP4zGanjrsLKTNS%2FKdg%3D%3D; Arrow Part Number: ADUM1200ARZ; Arrow Price/Stock: https://www.arrow.com/en/products/adum1200arz/analog-devices?region=europe
footprint SOIC127P600X175-8N
pins: 1 VDD1, 2 VIA, 3 VIB, 4 GND1, 5 GND2, 6 VOB, 7 VOA, 8 VDD2

## IXTA110N055T2-TRL
designator Q?
N-Channel VDS 55V Id 110A; MP: IPB60R165CP; MF: Infineon; Availability: In Stock; Package: TO-263 Infineon; SnapEDA_Link: https://www.snapeda.com/parts/IPB60R165CP/Infineon/view-part/?ref=snap; Price: None; Value: *; Check_prices: https://www.snapeda.com/parts/IPB60R165CP/Infineon/view-part/?ref=eda
footprint DPAK254P1524X457-3N
pins: 1 G, 2 D, 3 S

## JQC-3F-(T73)-1Z-5VDC
designator RL?
Generic 5V Relay; MF: Songle Relay; MP: SRD-05VDC-SL-C; Check_prices: https://www.snapeda.com/parts/SRD-05VDC-SL-C/Songle+Relay/view-part/?ref=eda; Value: *; Availability: Not in stock; Price: None; Package: NON STANDARD-5 Songle Relay; SnapEDA_Link: https://www.snapeda.com/parts/SRD-05VDC-SL-C/Songle+Relay/view-part/?ref=snap
footprint RELAY-5VDC
pins: A1, A2, COM, NC, NO

## L77SDEH09SOL2RM5
designator J?
Dsub, Stamped Signal 3A, Straight PCB Thru Hole,  09 Socket, Flash Gold, Bright Tin Shell, 4-40 Threaded Standoff 6.0mm (0.236in), With Boardlock 4.2mm (0.165in); Manufacturer_Name: Amphenol Communications Solutions; Geometry.Height: 12.5mm; Manufacturer_Part_Number: L77SDEH09SOL2RM5; Mouser Part Number: 523-L77SDEH09SOL2RM5; Mouser Price/Stock: https://www.mouser.co.uk/ProductDetail/Amphenol-Commercial-Products/L77SDEH09SOL2RM5?qs=mq7kV%2Fq8lk5mrczxfq2%252BXg%3D%3D; Arrow Part Number: L77SDEH09SOL2RM5; Arrow Price/Stock: https://www.arrow.com/en/products/l77sdeh09sol2rm5/amphenol-fci?region=nac; Datasheet Link: https://cdn.amphenol-cs.com/media/wysiwyg/files/drawing/l77sdxhxxsol2rm5.pdf
footprint L77SDEH09SOL2RM5
pins: 1, 2, 3, 4, 5, 6, 7, 8, 9, MH1, MH2

## LAN8720ACP
designator U?
10-100Mbps Ethernet PHY Transreceiver IC; Manufacturer_Name: Microchip; Manufacturer_Part_Number: LAN8720ACP; Datasheet Link: http://ww1.microchip.com/downloads/en/DeviceDoc/8720a.pdf; Height: 1mm
footprint QFN50P400X400X100-25N-D
pins: 1 VDD2A, 2 LED2/~{NINTSEL}, 3 LED1/~{REGOFF}, 4 XTAL2, 5 XTAL1/CLKIN, 6 VDDCR, 7 RXD1/~{MODE1}, 8 RXD0/~{MODE0}, 9 VDDIO, 10 RXER/~{PHYAD0}, 11 CRS_DV/~{MODE2}, 12 MDIO, 13 MDC, 14 NINT/REFCLKO, 15 NRST, 16 TXEN, 17 TXD0, 18 TXD1, 19 VDD1A, 20 TXN, 21 TXP, 22 RXN, 23 RXP, 24 RBIAS, 25 VSS

## LCB2012-152Y-N
designator FB?
Ferrite Bead 1A 0805 SMD
footprint Inductor-0805
pins: 1, 2

## LD3985M33R
designator U?
IC REG LIN 3.3V 150MA TSOT23-5; MP: LD3985M33R; Package: None; Availability: Unavailable; Value: *; Price: None
footprint SOT95P280X145-5N
pins: 1 VIN, 2 GND (power), 3 VINH, 4 BYPASS, 5 VOUT

## LMR51430YDDCR
designator U?
+36V 3A Buck Converter 1.1MHz; Manufacturer_Name: Texas Instruments; Manufacturer_Part_Number: LMR51430YDDCR; Datasheet Link: https://www.ti.com/lit/ds/symlink/lmr51430.pdf?ts=1657817980313&ref_url=https%253A%252F%252Fwww.ti.com%252Fproduct%252FLMR51430%253FkeyMatch%253DLMR51430%2526tisearch%253Dsearch-everything%2526usecase%253DGPN; Height: 1.1mm; Mouser Part Number: 595-LMR51430YDDCR; Mouser Price/Stock: https://www.mouser.co.uk/ProductDetail/Texas-Instruments/LMR51430YDDCR?qs=vvQtp7zwQdMdLcsY5sFiMg%3D%3D; Arrow Part Number: LMR51430YDDCR; Arrow Price/Stock: https://www.arrow.com/en/products/lmr51430yddcr/texas-instruments?region=nac
footprint SOT95P280X110-6N
pins: 1 GND, 2 SW, 3 VIN, 4 FB, 5 EN, 6 CB

## LSM6DSOTR
designator U?
+3.3V Inertal Measurement Unit Sensor ST; Manufacturer_Name: STMicroelectronics; Manufacturer_Part_Number: LSM6DSOTR; Datasheet Link: https://www.st.com/resource/en/datasheet/lsm6dso.pdf; Mouser Part Number: 511-LSM6DSOTR; Mouser Price/Stock: https://www.mouser.co.uk/ProductDetail/STMicroelectronics/LSM6DSOTR?qs=lc2O%252BfHJPVbD197C5c7oNw%3D%3D; Arrow Part Number: LSM6DSOTR; Arrow Price/Stock: https://www.arrow.com/en/products/lsm6dsotr/stmicroelectronics?region=nac
footprint LGA-14(2.5X3X0.86)
pins: 1 SDO/SA0, 2 SDX, 3 SCX, 4 INT1, 5 VDDIO, 6 GND_1, 7 GND_2, 8 VDD, 9 INT2, 10 OCS_AUX, 11 SDO_AUX, 12 CS, 13 SCL, 14 SDA

## LT1963AEST-1.5#TRPBF
designator U?
Linear Voltage Regulator IC Positive Fixed 1 Output 1.5A SOT-223-3; MF: Analog Devices; MP: LT1963AEST-1.5#TRPBF; SnapEDA_Link: https://www.snapeda.com/parts/LT1963AEST-1.5%23TRPBF/Analog+Devices/view-part/?ref=snap; Package: SOT-223-3 Linear Technology; Value: *; Check_prices: https://www.snapeda.com/parts/LT1963AEST-1.5%23TRPBF/Analog+Devices/view-part/?ref=eda
footprint SOT229P700X180-4N
pins: 1 IN (in), 2 GND (power), 3 OUT, 4 GND (power)

## LTST-C190TGKT
designator D?
20mA Generic 0603 Led SMD; Manufacturer_Name: Lite-On; Manufacturer_Part_Number: LTST-C190KRKT; Datasheet Link: https://componentsearchengine.com/Datasheets/1/LTST-C190KRKT.pdf; Height: 0.8mm; Mouser Part Number: 859-LTST-C190KRKT; Mouser Price/Stock: https://www.mouser.co.uk/ProductDetail/Lite-On/LTST-C190KRKT?qs=kAD5fFa1n5VY3YYNWPC1Fg%3D%3D; Arrow Part Number: LTST-C190KRKT; Arrow Price/Stock: https://www.arrow.com/en/products/ltst-c190krkt/lite-on-technology?region=europe
footprint LEDC1608X80N
pins: 1 K, 2 A

## M24C01-WMN6TP
designator U?
EEPROM Memory IC 1Kb (128 x 8) IÂ²C 400kHz 900ns 8-SO; MF: STMicroelectronics; Mouser-Purchase-URL: https://snapeda.com/shop?store=Mouser&id=104564; DigiKey-Purchase-URL: https://snapeda.com/shop?store=DigiKey&id=104564; SnapEDA_Link: https://www.snapeda.com/parts/M24C01-WMN6TP/STMicroelectronics/view-part/104564/?ref=snap; Availability: Warning; MP: M24C01-WMN6TP; Price: None; Package: SO-8 STMicroelectronics; Value: *
footprint SOIC127P600X175-8N
pins: 1 E0, 2 E1, 3 E2, 4 VSS, 5 SDA, 6 SCL, 7 ~{WC}, 8 VCC (power)

## MAX9814ETD+T
designator U?
Analog Pre Amplifier IC +3.3V - +5V; Manufacturer_Name: Analog Devices; Manufacturer_Part_Number: MAX9814ETD+T; Datasheet Link: https://www.analog.com/MAX9814/datasheet; Height: 0.8mm; Mouser Part Number: 700-MAX9814ETDT; Mouser Price/Stock: https://www.mouser.co.uk/ProductDetail/Analog-Devices-Maxim-Integrated/MAX9814ETD%2bT?qs=1THa7WoU59HUZGorIAH%2Frw%3D%3D; Arrow Part Number: MAX9814ETD+T; Arrow Price/Stock: null?region=nac
footprint SON40P300X300X80-15N
pins: 1 CT, 2 ~{SHDN}, 3 CG, 4 N.C._1, 5 VDD, 6 MICOUT, 7 GND, 8 MICIN, 9 A/R, 10 GAIN, 11 N.C._2, 12 BIAS, 13 MICBIAS, 14 TH, 15 EP

## MAX9860ETG+T
designator U?
Digital Codec IC; Manufacturer_Name: Analog Devices; Manufacturer_Part_Number: MAX9860ETG+T; Datasheet Link: https://datasheets.maximintegrated.com/en/ds/MAX9860.pdf; Height: 0.8mm; Mouser Part Number: 700-MAX9860ETGT; Mouser Price/Stock: https://www.mouser.co.uk/ProductDetail/Analog-Devices-Maxim-Integrated/MAX9860ETG%2bT?qs=LHmEVA8xxfYGy2Ln2j7A4Q%3D%3D; Arrow Part Number: MAX9860ETG+T; Arrow Price/Stock: https://www.arrow.com/en/products/max9860etgt/maxim-integrated?region=nac
footprint QFN50P400X400X80-25N
pins: 1 MICBIAS, 2 REG, 3 PREG, 4 REF, 5 AGND, 6 AVDD, 7 OUTP, 8 OUTN, 9 SDA, 10 SCL, 11 DVDDIO, 12 DGND, 13 DVDD, 14 MCLK, 15 SDOUT, 16 SDIN, 17 LRCLK, 18 BCLK, 19 ~{IRQ}, 20 MICRN, 21 MICRP, 22 MICLN, 23 MICLP, 24 MICGND, 25 EP

## MCP2558FDT-H_SN
designator U?
CAN Interface IC CAN FD Transceiver with Silent Mode; Manufacturer_Name: Microchip; Manufacturer_Part_Number: MCP2558FDT-H/SN; Geometry.Height: 1.75mm; Mouser Part Number: 579-MCP2558FDT-H/SN; Mouser Price/Stock: https://www.mouser.co.uk/ProductDetail/Microchip-Technology/MCP2558FDT-H-SN?qs=ZEMkBHnybRFERYnvJEsEHA%3D%3D; Arrow Part Number: MCP2558FDT-H/SN; Arrow Price/Stock: https://www.arrow.com/en/products/mcp2558fdt-hsn/microchip-technology?region=nac; Datasheet Link: https://ww1.microchip.com/downloads/en/DeviceDoc/20005533A.pdf
footprint SOIC127P600X175-8N
pins: 1 TXD, 2 VSS, 3 VDD, 4 RXD, 5 VIO, 6 CANL, 7 CANH, 8 S

## MCP2561-E_SN
designator U?
HIGH SPEED CANBUS TRANSRECEIVER + 5V; Manufacturer_Name: Microchip; Manufacturer_Part_Number: MCP2561-E/SN; Datasheet Link: http://uk.rs-online.com/web/p/products/7990216; Height: 1.75mm; Mouser Part Number: 579-MCP2561-E/SN; Mouser Price/Stock: https://www.mouser.co.uk/ProductDetail/Microchip-Technology/MCP2561-E-SN?qs=6qKXPk0vzx28OXZ8VYnZ2A%3D%3D; Arrow Part Number: MCP2561-E/SN; Arrow Price/Stock: https://www.arrow.com/en/products/mcp2561-esn/microchip-technology?region=nac
footprint SOIC127P600X175-8N
pins: 1 TXD, 2 VSS, 3 VDD, 4 RXD, 5 SPLIT, 6 CANL, 7 CANH, 8 STBY

## MCP6002-I_MS
designator U?
Rail to Rail +5V Operational Amplifier; Manufacturer_Name: Microchip; Manufacturer_Part_Number: MCP6002-I/MS; Datasheet Link: https://datasheet.datasheetarchive.com/originals/distributors/Datasheets-DGA24/1612149.pdf; Height: 1.1mm; Mouser Part Number: 579-MCP6002-I/MS; Mouser Price/Stock: https://www.mouser.co.uk/ProductDetail/Microchip-Technology/MCP6002-I-MS?qs=cUeqqamUra%2FBe1qC6EG%2FuA%3D%3D; Arrow Part Number: MCP6002-I/MS; Arrow Price/Stock: https://www.arrow.com/en/products/mcp6002-ims/microchip-technology?region=europe
footprint SOP65P490X110-8N
pins: 1 VOUTA, 2 VINA-, 3 VINA+, 4 VSS, 5 VINB+, 6 VINB-, 7 VOUTB, 8 VDD

## MEM2067-02-180-00-A_REVB
designator J?
Micro SD Memory Card ConnectorSMT, Hinged, 1.80mm Profile; MP: MEM2067-02-180-00-A_REVB; Price: None; Value: *; Package: None; Availability: Unavailable
footprint GCT_MEM2067-02-180-00-A_REVB
pins: 1 DAT2 (io), 2 CD/DAT3 (io), 3 CMD (io), 4 VDD (power), 5 CLK (io), 6 VSS (power), 7 DAT0 (io), 8 DAT1 (io), SHIELD

## MIC23150-55YMT-TR
designator U?
No Description Available; Mfr_Name: Microchip; RefDes: RefDes; Type: Type
footprint MLF-8_MT_MCH
pins: 1 SW, 2 SW, 3 EN, 4 SNS, 5 AGND (power), 6 VIN, 7 VIN, 8 PGND (power)

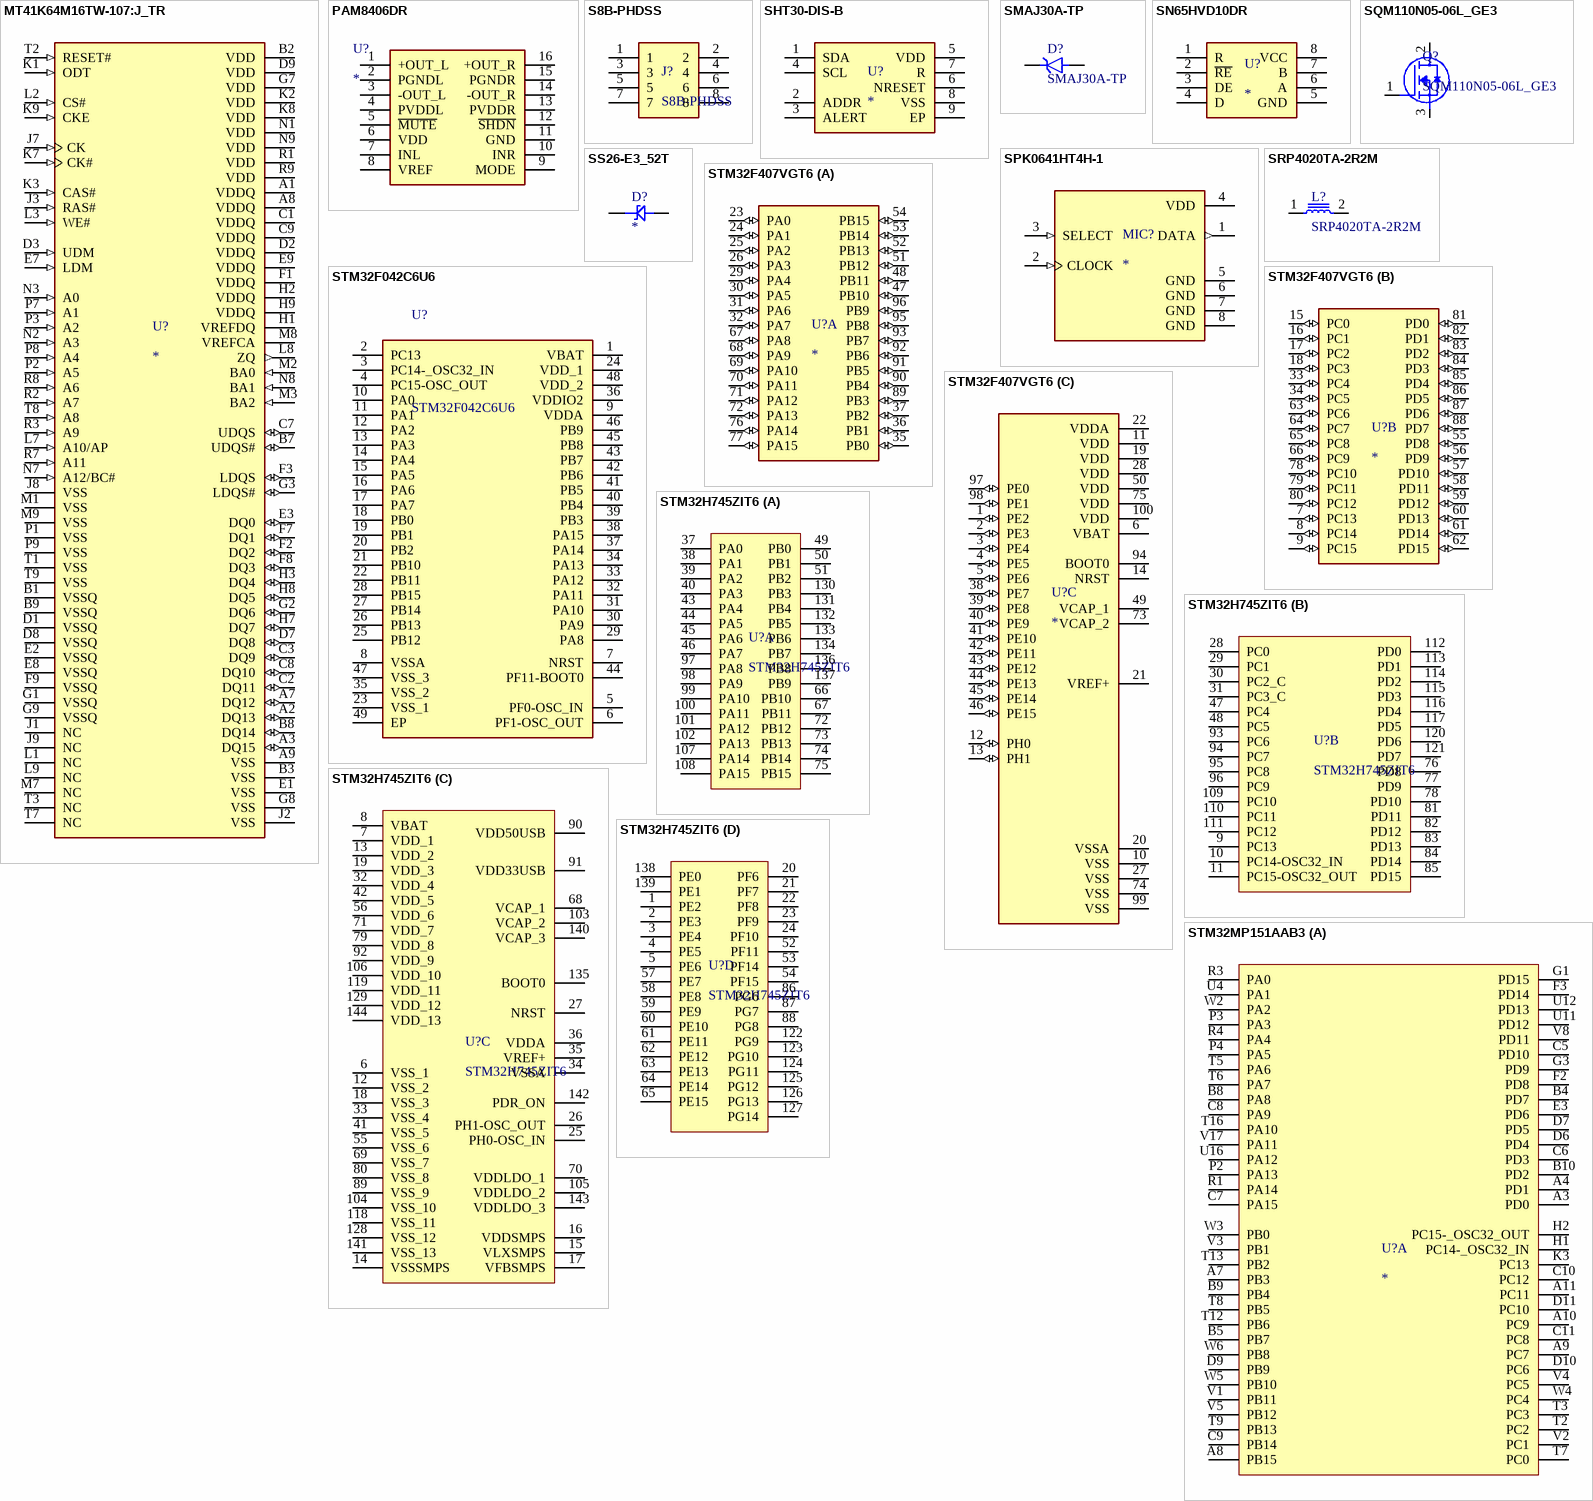
[diagram p4: symbols MT41K64M16TW-107:J_TR to STM32MP151AAB3]

## MT41K64M16TW-107:J_TR
designator U?
SDRAM - DDR3L Memory IC 1Gb (64M x 16) Parallel 933MHz 20ns 96-FBGA (8x14); MF: Micron Technology Inc.; MP: MT41K64M16TW-107:J TR; Package: None; Check_prices: https://www.snapeda.com/parts/MT41K64M16TW-107:J%20TR/Micron/view-part/5640273/?ref=eda; Price: None; SnapEDA_Link: https://www.snapeda.com/parts/MT41K64M16TW-107:J%20TR/Micron/view-part/5640273/?ref=snap; Value: *; Purchase-URL: https://pricing.snapeda.com/search/part/MT41K64M16TW-107:J TR/?ref=eda; Availability: Warning
footprint BGA96C80P9X16_1400X800X120N
pins: A1 VDDQ (power), A2 DQ13 (io), A3 DQ15 (io), A7 DQ12 (io), A8 VDDQ (power), A9 VSS (power), B1 VSSQ (power), B2 VDD (power), B3 VSS (power), B7 UDQS# (io), B8 DQ14 (io), B9 VSSQ (power), C1 VDDQ (power), C2 DQ11 (io), C3 DQ9 (io), C7 UDQS (io), C8 DQ10 (io), C9 VDDQ (power), D1 VSSQ (power), D2 VDDQ (power), D3 UDM (in), D7 DQ8 (io), D8 VSSQ (power), D9 VDD (power), E1 VSS (power), E2 VSSQ (power), E3 DQ0 (io), E7 LDM (in), E8 VSSQ (power), E9 VDDQ (power), F1 VDDQ (power), F2 DQ2 (io), F3 LDQS (io), F7 DQ1 (io), F8 DQ3 (io), F9 VSSQ (power), G1 VSSQ (power), G2 DQ6 (io), G3 LDQS# (io), G7 VDD (power), G8 VSS (power), G9 VSSQ (power), H1 VREFDQ (power), H2 VDDQ (power), H3 DQ4 (io), H7 DQ7 (io), H8 DQ5 (io), H9 VDDQ (power), J1 NC, J2 VSS (power), J3 RAS# (in), J7 CK (in), J8 VSS (power), J9 NC, K1 ODT (in), K2 VDD (power), K3 CAS# (in), K7 CK# (in), K8 VDD (power), K9 CKE (in), L1 NC, L2 CS# (in), L3 WE# (in), L7 A10/AP (in), L8 ZQ (out), L9 NC, M1 VSS (power), M2 BA0 (in), M3 BA2 (in), M7 NC, M8 VREFCA (power), M9 VSS (power), N1 VDD (power), N2 A3 (in), N3 A0 (in), N7 A12/BC# (in), N8 BA1 (in), N9 VDD (power), P1 VSS (power), P2 A5 (in), P3 A2 (in), P7 A1 (in), P8 A4 (in), P9 VSS (power), R1 VDD (power), R2 A7 (in), R3 A9 (in), R7 A11 (in), R8 A6 (in), R9 VDD (power), T1 VSS (power), T2 RESET# (in), T3 NC, T7 NC, T8 A8 (in), T9 VSS (power)

## PAM8406DR
designator U?
Audio Amplifier D Class 5W; Manufacturer_Name: Diodes Incorporated; Manufacturer_Part_Number: PAM8406DR; Datasheet Link: https://www.diodes.com//assets/Datasheets/PAM8406.pdf; Height: 1.26mm; Mouser Part Number: 621-PAM8406DR; Mouser Price/Stock: https://www.mouser.co.uk/ProductDetail/Diodes-Incorporated/PAM8406DR?qs=%252BSlWJf1dfkLK5VNh%252Bez%2F0Q%3D%3D; Arrow Part Number: PAM8406DR; Arrow Price/Stock: https://www.arrow.com/en/products/pam8406dr/diodes-incorporated?region=asia
footprint SOIC127P600X126-16N
pins: 1 +OUT_L, 2 PGNDL, 3 -OUT_L, 4 PVDDL, 5 ~{MUTE}, 6 VDD, 7 INL, 8 VREF, 9 MODE, 10 INR, 11 GND, 12 ~{SHDN}, 13 PVDDR, 14 -OUT_R, 15 PGNDR, 16 +OUT_R

## S8B-PHDSS
designator J?
Connector Header Through Hole, Right Angle 8 position 0.079 _2.00mm_; MF: JST Sales; SnapEDA_Link: https://www.snapeda.com/parts/S8B-PHDSS/JST%20Sales%20America%20Inc./view-part/761599/?ref=snap; Value: *; Price: None; Availability: Unavailable; MP: S8B-PHDSS; Package: None
footprint JST_S8B-PHDSS
pins: 1, 2, 3, 4, 5, 6, 7, 8

## SHT30-DIS-B
designator U?
I2C Temp Humd Sensor SMD; Manufacturer_Name: Sensirion; Manufacturer_Part_Number: SHT30-DIS-B; Datasheet Link: https://datasheet.datasheetarchive.com/originals/distributors/DKDS-37/728933.pdf; Height: 1mm; Mouser Part Number: 403-SHT30-DIS-B; Mouser Price/Stock: https://www.mouser.com/Search/Refine.aspx?Keyword=403-SHT30-DIS-B
footprint SON50P250X250X100-9N-D
pins: 1 SDA, 2 ADDR, 3 ALERT, 4 SCL, 5 VDD, 6 NRESET, 7 R, 8 VSS, 9 EP

## SMAJ30A-TP
designator D?
TVS Diode (Uni-directional); Manufacturer_Name: MCC; Datasheet Link: https://www.mccsemi.com/pdf/Products/SMAJ5.0A-SMAJ440CA(SMA).pdf; Height: 2.3mm; Manufacturer_Part_Number: SMAJ30A-TP; Mouser Part Number: 833-SMAJ30A-TP; Mouser Price/Stock: https://www.mouser.co.uk/ProductDetail/Micro-Commercial-Components-MCC/SMAJ30A-TP?qs=ZNK0BnemlqGyA6NYIecqnw%3D%3D; Arrow Part Number: SMAJ30A-TP; Arrow Price/Stock: https://www.arrow.com/en/products/smaj30a-tp/micro-commercial-components
footprint DIOM5226X230N
pins: 1, 2

## SN65HVD10DR
designator U?
3.3V RS485 TRANSRECEIVER IC; Manufacturer_Name: Texas Instruments; Manufacturer_Part_Number: SN65HVD10DR; Datasheet Link: http://www.ti.com/lit/gpn/sn65hvd10; Height: 1.75mm; Mouser Part Number: 595-SN65HVD10DR; Mouser Price/Stock: https://www.mouser.co.uk/ProductDetail/Texas-Instruments/SN65HVD10DR?qs=QViXGNcIEAviyhAwS0yoXQ%3D%3D; Arrow Part Number: SN65HVD10DR; Arrow Price/Stock: https://www.arrow.com/en/products/sn65hvd10dr/texas-instruments?region=nac
footprint SOIC127P600X175-8N
pins: 1 R, 2 ~{RE}, 3 DE, 4 D, 5 GND, 6 A, 7 B, 8 VCC

## SPK0641HT4H-1
designator MIC?
20 Hz ~ 20 kHz Digital, PDM Microphone MEMS (Silicon) 1.6 V ~ 3.6 V Omnidirectional (-26dB Â±1dB @ 94dB SPL) Solder Pads; MF: Knowles; MP: SPK0641HT4H-1; Value: *; Check_prices: https://www.snapeda.com/parts/SPK0641HT4H-1/Knowles/view-part/?ref=eda; Purchase-URL: https://pricing.snapeda.com/search/part/SPK0641HT4H-1/?ref=eda; Price: None; SnapEDA_Link: https://www.snapeda.com/parts/SPK0641HT4H-1/Knowles/view-part/?ref=snap; Availability: In Stock; Package: None
footprint MIC_SPK0641HT4H-1
pins: 1 DATA (out), 2 CLOCK (in), 3 SELECT (in), 4 VDD (power), 5 GND (power), 6 GND (power), 7 GND (power), 8 GND (power)

## SQM110N05-06L_GE3
designator Q?
MOSFET DIS.110A 55V N-CH; MP: IPB60R165CP; MF: Infineon; Availability: In Stock; Package: TO-263 Infineon; SnapEDA_Link: https://www.snapeda.com/parts/IPB60R165CP/Infineon/view-part/?ref=snap; Price: None; Value: *; Check_prices: https://www.snapeda.com/parts/IPB60R165CP/Infineon/view-part/?ref=eda
footprint DPAK254P1524X457-3N
pins: 1 G, 2 D, 3 S

## SRP4020TA-2R2M
designator L?
SRP4020TA-2R2M 4A Inductor; Manufacturer_Name: Vishay; Manufacturer_Part_Number: IHLP2525CZER220M8A; Datasheet Link: https://componentsearchengine.com/Datasheets/2/IHLP2525CZER220M8A.pdf; Height: 3mm; Mouser Part Number: 70-IHLP2525CZR220M8A; Mouser Price/Stock: https://www.mouser.co.uk/ProductDetail/Vishay-Dale/IHLP2525CZER220M8A?qs=ei%2FvZTf36ZyKyW60gc1ORQ%3D%3D; Arrow Part Number: IHLP2525CZER220M8A; Arrow Price/Stock: https://www.arrow.com/en/products/ihlp2525czer220m8a/vishay
footprint INDC4441X200N
pins: 1, 2

## SS26-E3_52T
designator D?
2A SMD Schottky Diode; Manufacturer_Name: Vishay; Manufacturer_Part_Number: SS26-E3/52T; Datasheet Link: https://componentsearchengine.com/Datasheets/2/SS26-E3_52T.pdf; Height: 2.44mm; Mouser Part Number: 625-SS26-E3; Mouser Price/Stock: https://www.mouser.co.uk/ProductDetail/Vishay-General-Semiconductor/SS26-E3-52T?qs=x2jpVgRnAtNToatHaCRUvw%3D%3D; Arrow Part Number: SS26-E3/52T; Arrow Price/Stock: https://www.arrow.com/en/products/ss26-e352t/vishay?region=europe
footprint DIOM5436X244N
pins: 1 K, 2 A

## STM32F042C6U6
designator U?
STMICROELECTRONICS - STM32F042C6U6 - MCU, ARM CORTEX-M0, 48MHZ, UFQFPN-48; Geometry.Height: 0.65mm; Manufacturer_Name: STMicroelectronics; Manufacturer_Part_Number: STM32F042C6U6; Mouser Part Number: 511-STM32F042C6U6; Mouser Price/Stock: https://www.mouser.co.uk/ProductDetail/STMicroelectronics/STM32F042C6U6?qs=4l9S5vBWkUI%2FX%2FLe94sSqA%3D%3D; Arrow Part Number: STM32F042C6U6; Arrow Price/Stock: https://www.arrow.com/en/products/stm32f042c6u6/stmicroelectronics; Datasheet Link: https://www.st.com/resource/en/datasheet/stm32f042c6.pdf
footprint QFN50P700X700X60-49N
pins: 1 VBAT, 2 PC13, 3 PC14-_OSC32_IN, 4 PC15-OSC_OUT, 5 PF0-OSC_IN, 6 PF1-OSC_OUT, 7 NRST, 8 VSSA, 9 VDDA, 10 PA0, 11 PA1, 12 PA2, 13 PA3, 14 PA4, 15 PA5, 16 PA6, 17 PA7, 18 PB0, 19 PB1, 20 PB2, 21 PB10, 22 PB11, 23 VSS_1, 24 VDD_1, 25 PB12, 26 PB13, 27 PB14, 28 PB15, 29 PA8, 30 PA9, 31 PA10, 32 PA11, 33 PA12, 34 PA13, 35 VSS_2, 36 VDDIO2, 37 PA14, 38 PA15, 39 PB3, 40 PB4, 41 PB5, 42 PB6, 43 PB7, 44 PF11-BOOT0, 45 PB8, 46 PB9, 47 VSS_3, 48 VDD_2, 49 EP